# Altium footprint library TDK_B32922C3474K000.PcbLib: 1 footprints
Each footprint in its own frame and in the unit in brackets; x right, y up, seen from the top. Pads: shape width x height; smd on the part's side, far side on the other; paste and mask are expansions set on the pad; w line width, h text height; cw(c..) or ccw(c..) is an arc to the next point about the centre after c.
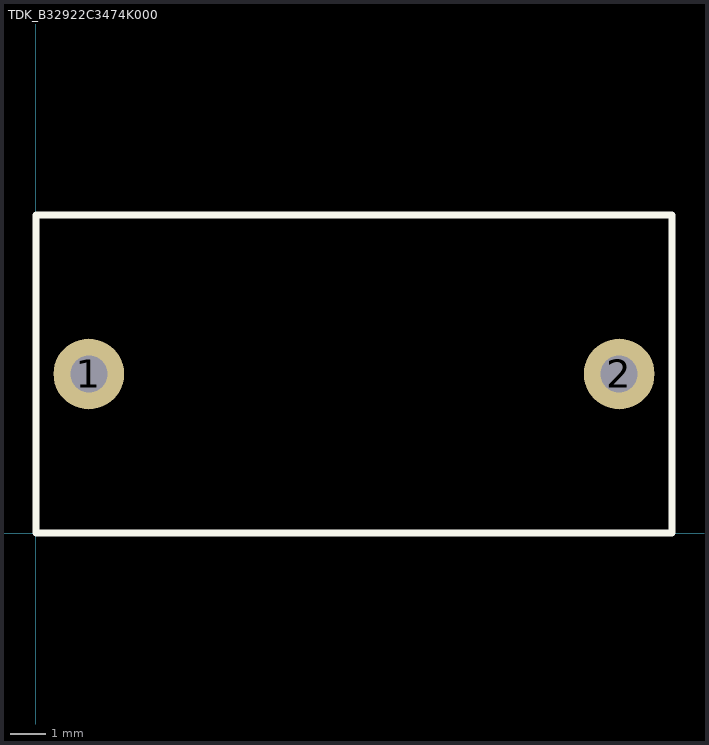
[diagram p0: the footprint, top view; thin cyan lines are the x and y axes]

## TDK_B32922C3474K000 [mm] "TDK Film Capacitor"
pads (2):
  round 2 hole 1.05: 1(1.5,4.5) 2(16.5,4.5)
Top Overlay:
  lines w0.2: 0,0 18,0 18,9 0,9 0,0
3D body: height 17.5, standoff 0, extent 0,0 18,9